# EAGLE library part REX006432AYPP3N0 (library ds_displays)
Dot Matrix: 64 x 32 OLED
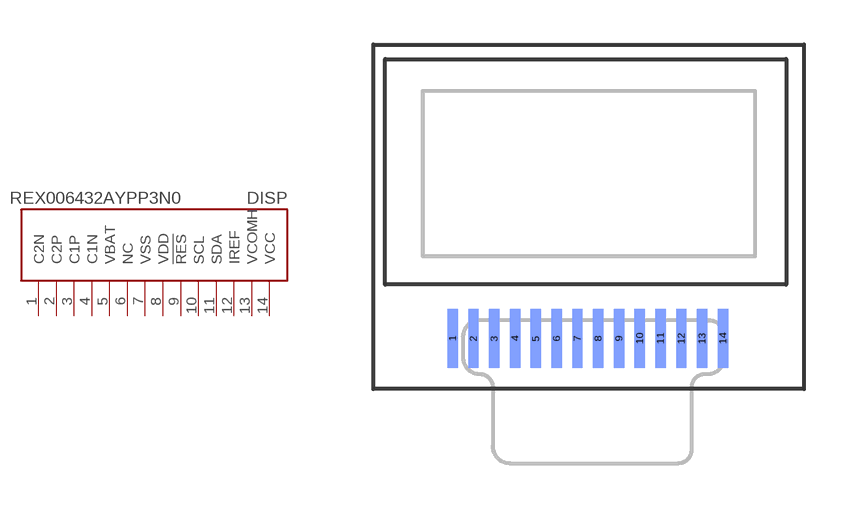
[diagram p2: symbol with the pads of REX006432AYPP3N0; footprint REX006432AYPP3N0]

Designator prefix DISP

## REX006432AYPP3N0  [REX006432AYPP3N0]
1  C2N
2  C2P
3  C1P
4  C1N
5  VBAT
6  NC
7  VSS
8  VDD
9  !RES
10  SCL
11  SDA
12  IREF
13  VCOMH
14  VCC

## Footprint REX006432AYPP3N0 (pad centres in mm)
smd 0.35 x 2 bottom: 1 -4.45,-4.7; 2 -3.75,-4.7; 3 -3.05,-4.7; 4 -2.35,-4.7; 5 -1.65,-4.7; 6 -0.95,-4.7; 7 -0.25,-4.7; 8 0.45,-4.7; 9 1.15,-4.7; 10 1.85,-4.7; 11 2.55,-4.7; 12 3.25,-4.7; 13 3.95,-4.7; 14 4.65,-4.7